# Altium schematic symbol library SuperKnobLite.SchLib: 18 symbols
Pins are listed as number, name and electrical type; pins without a type are passive.

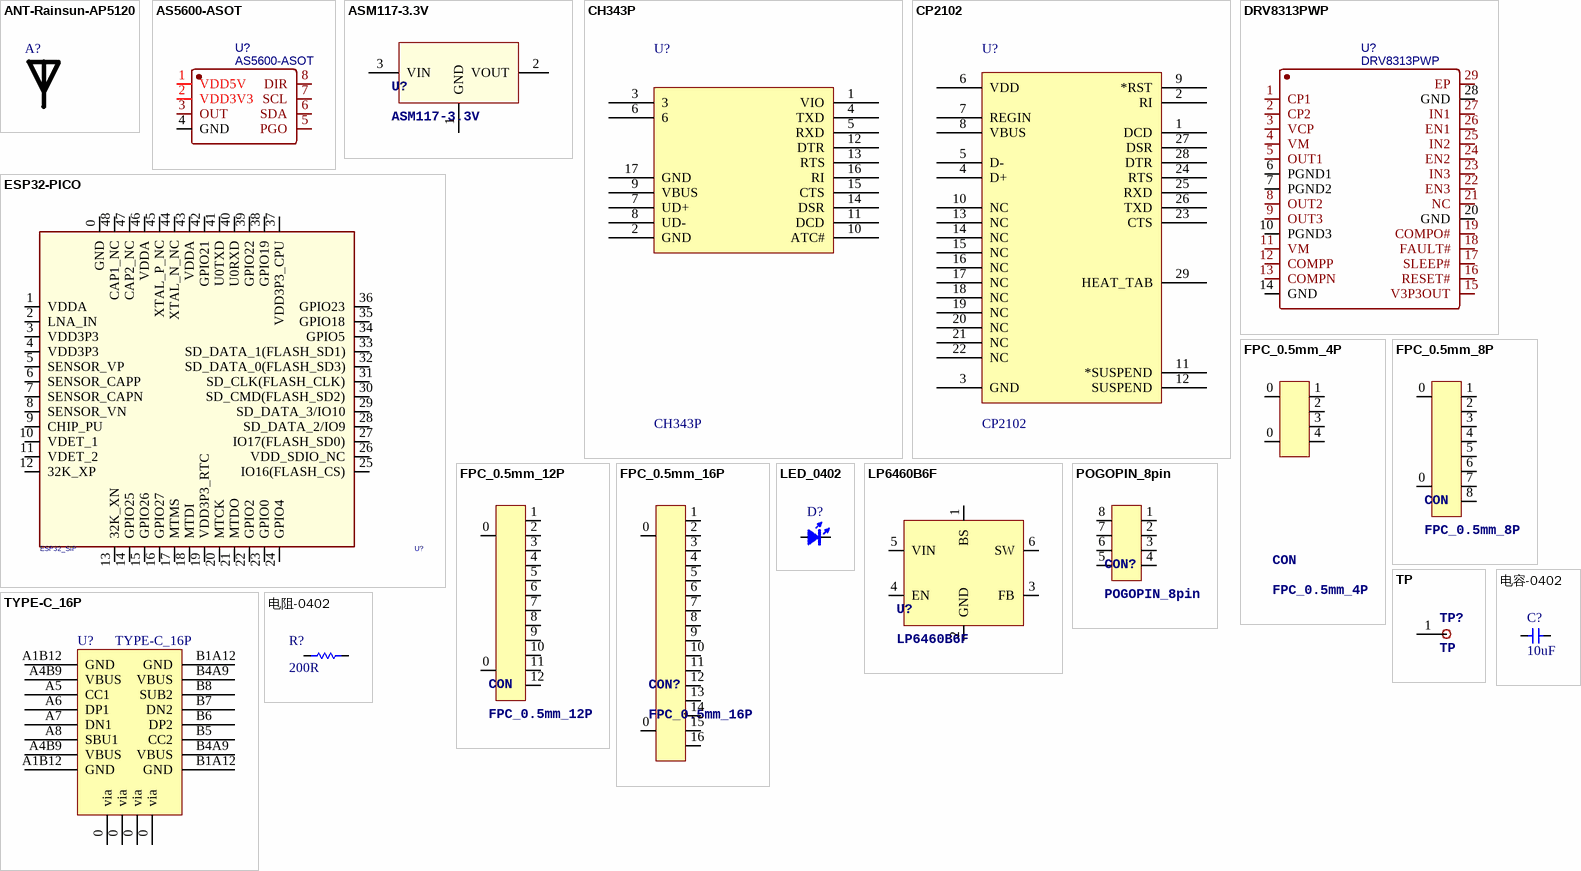
[diagram p0: symbols ANT-Rainsun-AP5120 to 电阻-0402]

## ANT-Rainsun-AP5120
designator A?, comment RAINSUN  (value not drawn)
贴片天线
footprint ANT-Rainsun-AN5120 (选择焊盘)
pins: 1

## AS5600-ASOT
designator U?
磁编码器; BOM_Manufacturer: Advanced Monolithic Systems; Contributor: LCSC; BOM_Supplier: LCSC; BOM_Supplier Part: C499458; BOM_Manufacturer Part: AS5600-ASOT; BOM_JLCPCB Part Class: Extended Part; spicePre: U; spiceSymbolName: AS5600-ASOT
footprint SOIC-8_L5.0-W4.0-P1.27-LS6.0-BL
pins: 1 VDD5V, 2 VDD3V3, 3 OUT, 4 GND, 5 PGO, 6 SDA, 7 SCL, 8 DIR

## ASM117-3.3V
designator U?
线性稳压器
pins: 1 GND, 2 VOUT, 3 VIN

## CH343P
designator U?
USB转TTL; PART DESC: SINGLE-CHIP USB TO UART BRIDGE, QFN28, RoHS.; PART NUMBER: CP2102; MFG #1: SILICON LABS; Value: Value; RefDes: RefDes; Type: DEV
footprint QFN-28
pins: 1 VIO, 2 GND, 3, 4 TXD, 5 RXD, 6, 7 UD+, 8 UD-, 9 VBUS, 10 ATC#, 11 DCD, 12 DTR, 13 RTS, 14 DSR, 15 CTS, 16 RI, 17 GND

## CP2102
designator U?
USB转TTL; PART DESC: SINGLE-CHIP USB TO UART BRIDGE, QFN28, RoHS.; MFG #1: SILICON LABS; PART NUMBER: CP2102; Value: Value; RefDes: RefDes; Type: DEV
footprint QFN-28
pins: 1 DCD, 2 RI, 3 GND, 4 D+, 5 D-, 6 VDD, 7 REGIN, 8 VBUS, 9 *RST, 10 NC, 11 *SUSPEND, 12 SUSPEND, 13 NC, 14 NC, 15 NC, 16 NC, 17 NC, 18 NC, 19 NC, 20 NC, 21 NC, 22 NC, 23 CTS, 24 RTS, 25 RXD, 26 TXD, 27 DSR, 28 DTR, 29 HEAT_TAB

## DRV8313PWP
designator U?
驱动芯片; BOM_Manufacturer: TI(德州仪器); Contributor: LCSC; BOM_Supplier: LCSC; BOM_Supplier Part: C2863441; BOM_Manufacturer Part: DRV8313PWP; spicePre: U; spiceSymbolName: DRV8313PWP
footprint HTSSOP-28_L9.8-W4.5-P0.65-LS6.6-BL-EP
pins: 1 CP1, 2 CP2, 3 VCP, 4 VM, 5 OUT1, 6 PGND1, 7 PGND2, 8 OUT2, 9 OUT3, 10 PGND3, 11 VM, 12 COMPP, 13 COMPN, 14 GND, 15 V3P3OUT, 16 RESET#, 17 SLEEP#, 18 FAULT#, 19 COMPO#, 20 GND, 21 NC, 22 EN3, 23 IN3, 24 EN2, 25 IN2, 26 EN1, 27 IN1, 28 GND, 29 EP

## ESP32-PICO
designator U?, comment ESP32_SIP
主控芯片
footprint QFN-48_7X7
pins: 0 GND (power), 1 VDDA (power), 2 LNA_IN, 3 VDD3P3 (power), 4 VDD3P3 (power), 5 SENSOR_VP, 6 SENSOR_CAPP, 7 SENSOR_CAPN, 8 SENSOR_VN, 9 CHIP_PU, 10 VDET_1, 11 VDET_2, 12 32K_XP, 13 32K_XN, 14 GPIO25, 15 GPIO26, 16 GPIO27, 17 MTMS, 18 MTDI, 19 VDD3P3_RTC (power), 20 MTCK, 21 MTDO, 22 GPIO2, 23 GPIO0, 24 GPIO4, 25 IO16(FLASH_CS), 26 VDD_SDIO_NC, 27 IO17(FLASH_SD0), 28 SD_DATA_2/IO9, 29 SD_DATA_3/IO10, 30 SD_CMD(FLASH_SD2), 31 SD_CLK(FLASH_CLK), 32 SD_DATA_0(FLASH_SD3), 33 SD_DATA_1(FLASH_SD1), 34 GPIO5, 35 GPIO18, 36 GPIO23, 37 VDD3P3_CPU (power), 38 GPIO19, 39 GPIO22, 40 U0RXD (power), 41 U0TXD (power), 42 GPIO21, 43 VDDA (power), 44 XTAL_N_NC, 45 XTAL_P_NC, 46 VDDA (power), 47 CAP2_NC, 48 CAP1_NC

## FPC_0.5mm_4P
designator CON
FPC连接器
pins: 0, 0, 1, 2, 3, 4

## FPC_0.5mm_8P
designator CON
FPC连接器
pins: 0, 0, 1, 2, 3, 4, 5, 6, 7, 8

## FPC_0.5mm_12P
designator CON
FPC连接器
pins: 0, 0, 1, 2, 3, 4, 5, 6, 7, 8, 9, 10, 11, 12

## FPC_0.5mm_16P
designator CON?
FPC连接器
pins: 0, 0, 1, 2, 3, 4, 5, 6, 7, 8, 9, 10, 11, 12, 13, 14, 15, 16

## LED_0402
designator D?, comment color?  (value not drawn)
发光二极管; Type: 0402; Value: color?
footprint LED_0402_RED
footprint LED_0402_BLUE
footprint LED_0402_ORANGE
footprint LED_0402_YELLOW
footprint LED_0402_GREEN
pins: 1 A, 2 K

## LP6460B6F
designator U?
DC-DC芯片
pins: 1 BS, 2 GND, 3 FB, 4 EN, 5 VIN, 6 SW

## POGOPIN_8pin
designator CON?
磁吸连接器
pins: 1, 2, 3, 4, 5, 6, 7, 8

## TP
designator TP?
测试点
pins: 1

## TYPE-C_16P
designator U?
Type-c
footprint Type_c_16p
pins: 0 via, 0 via, 0 via, 0 via, A1B12 GND, A1B12 GND, A4B9 VBUS, A4B9 VBUS, A5 CC1, A6 DP1, A7 DN1, A8 SBU1, B1A12 GND, B1A12 GND, B4A9 VBUS, B4A9 VBUS, B5 CC2, B6 DP2, B7 DN2, B8 SUB2

## 电容-0402
designator C?, comment 10uF
贴片电容; Value: 0.1u
footprint CAP_0402
pins: 1, 2

## 电阻-0402
designator R?, comment 200R
贴片电阻; Value: 22R
footprint RES_0402
pins: 1, 2